# Altium schematic symbol library firmware_tutorial_board.SchLib: 8 symbols
Pins are listed as number, name and electrical type; pins without a type are passive.

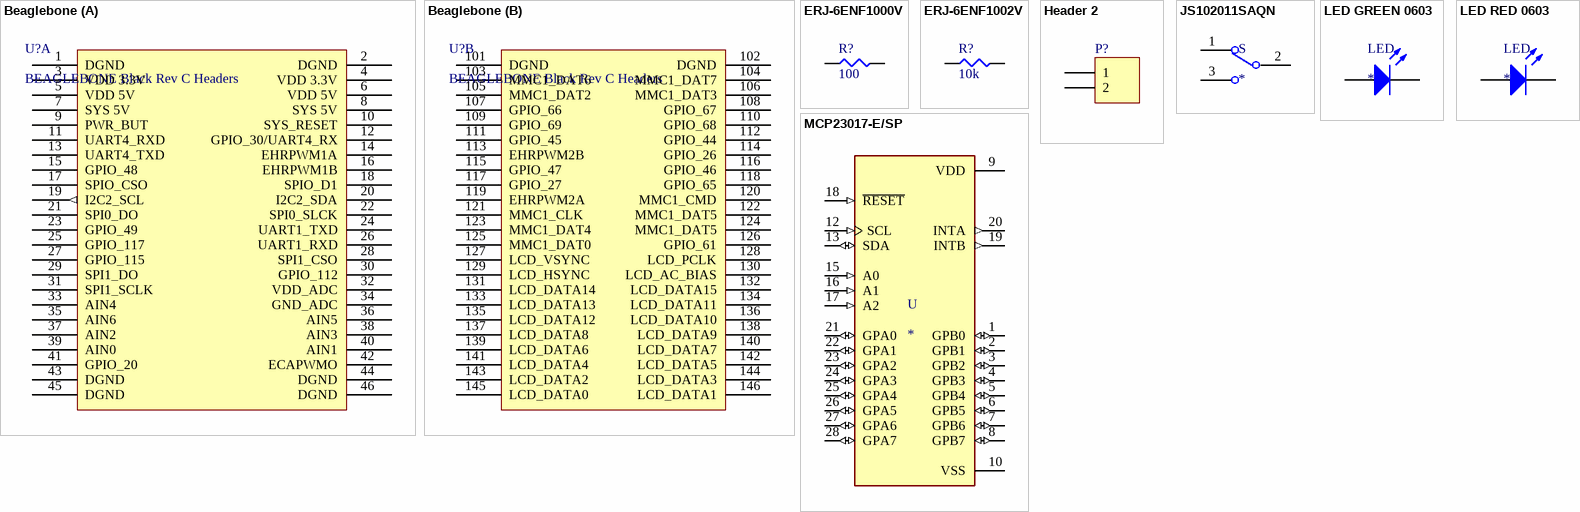
[diagram p0: symbols Beaglebone to MCP23017-E/SP]

## Beaglebone
designator U?, comment BEAGLEBONE Black Rev C Headers
KIT DEV BEAGLEBONE BLACK REV C. Header Breakout; Manufactuer: Beaglebone; Manufacturer P/N: Beaglebone Black REV C; Digikey P/N: BBB01-SC-505-ND; Digikey Link: https://www.digikey.com/product-detail/en/ghi-electronics-llc/BBB01-SC-505/BBB01-SC-505-ND/6210999; Datasheet: https://media.digikey.com/pdf/Data%20Sheets/Circuitco%20Elect/BB-BBLK-000%20Manual.pdf; ComponentLink1Description: Digikey; ComponentLink1URL: https://www.digikey.com/product-detail/en/ghi-electronics-llc/BBB01-SC-505/BBB01-SC-505-ND/6210999
footprint Beaglebone_Topside (Connector; Header; 24x2 Position)
part A pins: 1 DGND, 2 DGND, 3 VDD 3.3V, 4 VDD 3.3V, 5 VDD 5V, 6 VDD 5V, 7 SYS 5V, 8 SYS 5V, 9 PWR_BUT, 10 SYS_RESET, 11 UART4_RXD, 12 GPIO_30/UART4_RX, 13 UART4_TXD, 14 EHRPWM1A, 15 GPIO_48, 16 EHRPWM1B, 17 SPIO_CSO, 18 SPIO_D1, 19 I2C2_SCL (out), 20 I2C2_SDA, 21 SPI0_DO, 22 SPI0_SLCK, 23 GPIO_49, 24 UART1_TXD, 25 GPIO_117, 26 UART1_RXD, 27 GPIO_115, 28 SPI1_CSO, 29 SPI1_DO, 30 GPIO_112, 31 SPI1_SCLK, 32 VDD_ADC, 33 AIN4, 34 GND_ADC, 35 AIN6, 36 AIN5, 37 AIN2, 38 AIN3, 39 AIN0, 40 AIN1, 41 GPIO_20, 42 ECAPWMO, 43 DGND, 44 DGND, 45 DGND, 46 DGND
part B pins: 101 DGND, 102 DGND, 103 MMC1_DAT6, 104 MMC1_DAT7, 105 MMC1_DAT2, 106 MMC1_DAT3, 107 GPIO_66, 108 GPIO_67, 109 GPIO_69, 110 GPIO_68, 111 GPIO_45, 112 GPIO_44, 113 EHRPWM2B, 114 GPIO_26, 115 GPIO_47, 116 GPIO_46, 117 GPIO_27, 118 GPIO_65, 119 EHRPWM2A, 120 MMC1_CMD, 121 MMC1_CLK, 122 MMC1_DAT5, 123 MMC1_DAT4, 124 MMC1_DAT5, 125 MMC1_DAT0, 126 GPIO_61, 127 LCD_VSYNC, 128 LCD_PCLK, 129 LCD_HSYNC, 130 LCD_AC_BIAS, 131 LCD_DATA14, 132 LCD_DATA15, 133 LCD_DATA13, 134 LCD_DATA11, 135 LCD_DATA12, 136 LCD_DATA10, 137 LCD_DATA8, 138 LCD_DATA9, 139 LCD_DATA6, 140 LCD_DATA7, 141 LCD_DATA4, 142 LCD_DATA5, 143 LCD_DATA2, 144 LCD_DATA3, 145 LCD_DATA0, 146 LCD_DATA1

## ERJ-6ENF1000V
designator R?, comment 100
RES SMD 100 OHM 1% 1/8W 0805; Part Number: ERJ-6ENF1000V; Manufacturer: Panasonic Electronic Components; Factory Stock: 0; Unit Price (USD): 0.00729; @ qty: 1500; Minimum Quantity: 1; Power (Watts): 0.125W, 1/8W; Temperature Coefficient: ±100ppm/°C; Datasheets: http://industrial.panasonic.com/www-cgi/jvcr13pz.cgi?E+PZ+3+AOA0002+ERJ6ENF1000V+7+WW; Image: //media.digikey.com/Renders/Panasonic%20Renders/ERJ-0805%20Pkg.jpg; Digi-Key Part Number: P100CCT-ND; Quantity Available: 288663; Packaging: Cut Tape (CT); Series: ERJ; Part Status: Active; Value: 100; Tolerance: ±1%; Composition: Thick Film; Features: Automotive AEC-Q200; Operating Temperature: -55°C ~ 155°C; Package / Case: 0805 (2012 Metric); Supplier Device Package: 0805; Size / Dimension: 0.079" L x 0.049" W (2.00mm x 1.25mm); Height - Seated (Max): 0.028" (0.70mm); Number of Terminations: 2; Failure Rate: -
footprint SMD-0805-RES
pins: 1, 2

## ERJ-6ENF1002V
designator R?, comment 10k
RES SMD 10K OHM 1% 1/8W 0805; Part Number: ERJ-6ENF1002V; Manufacturer: Panasonic Electronic Components; Factory Stock: 0; Unit Price (USD): 0.00729; @ qty: 1500; Minimum Quantity: 1; Power (Watts): 0.125W, 1/8W; Temperature Coefficient: ±100ppm/°C; Datasheets: http://industrial.panasonic.com/www-cgi/jvcr13pz.cgi?E+PZ+3+AOA0002+ERJ6ENF1002V+7+WW; Image: //media.digikey.com/Renders/Panasonic%20Renders/ERJ-0805%20Pkg.jpg; Digi-Key Part Number: P10.0KCCT-ND; Quantity Available: 3985614; Packaging: Cut Tape (CT); Series: ERJ; Part Status: Active; Value: 10k; Tolerance: ±1%; Composition: Thick Film; Features: Automotive AEC-Q200; Operating Temperature: -55°C ~ 155°C; Package / Case: 0805 (2012 Metric); Supplier Device Package: 0805; Size / Dimension: 0.079" L x 0.049" W (2.00mm x 1.25mm); Height - Seated (Max): 0.028" (0.70mm); Number of Terminations: 2; Failure Rate: -
footprint SMD-0805-RES
pins: 1, 2

## Header 2
designator P?
Header, 2-Pin; LatestRevisionDate: 17-Jul-2002; LatestRevisionNote: Re-released for DXP Platform.; Publisher: Altium Limited
signal-integrity model Connector
footprint Pin Header 1x2 TH Pitch 2.54mm (PinHeader 1x2 TH Pitch 2.54mm)
pins: 1, 2

## JS102011SAQN
designator S
Slide Switch SPDT Surface Mount, Right Angle; MF: C&K; MP: JS102011SAQN; Availability: Unavailable; Price: None; SnapEDA_Link: https://www.snapeda.com/parts/JS102011SAQN/C%26K/view-part/214325/?ref=snap; Value: *; Package: None
footprint SW_JS102011SAQN
pins: 1, 2, 3

## LED GREEN 0603
designator LED
Manufacturer: Lite-On Inc.; Manufacturer P/N: LTST-C190KGKT; Digikey P/N: 160-1435-1-ND; Package / Case: 0603; Color: GREEN
footprint LED 0603 GREEN (Chip Diode, 2-Leads, Body 1.60x0.80mm, IPC Medium Density)
pins: 1 A, 2 K

## LED RED 0603
designator LED
Red 631nm LED Indication - Discrete 2V 0603 (1608 Metric); Manufacturer: Lite-On Inc.; Manufacturer P/N: LTST-C190KRKT; Digikey P/N: 160-1436-1-ND; Package / Case: 0603; Color: RED
footprint LED 0603 RED (Chip Diode, 2-Leads, Body 1.60x0.80mm, IPC Medium Density)
pins: 1 A, 2 K

## MCP23017-E/SP
designator U
I/O Expander 16 IÂ²C 1.7MHz 28-SPDIP; MP: MCP23017-E/SP; MF: Microchip; Availability: Unavailable; Price: None; Value: *; SnapEDA_Link: https://www.snapeda.com/parts/MCP23017-E/SP/Microchip/view-part/48605/?ref=snap; Package: DIP-28 Microchip
footprint DIP787W45P254L3556H508Q28
pins: 1 GPB0 (io), 2 GPB1 (io), 3 GPB2 (io), 4 GPB3 (io), 5 GPB4 (io), 6 GPB5 (io), 7 GPB6 (io), 8 GPB7 (io), 9 VDD (power), 10 VSS (power), 12 SCL (in), 13 SDA (io), 15 A0 (in), 16 A1 (in), 17 A2 (in), 18 ~{RESET} (in), 19 INTB (out), 20 INTA (out), 21 GPA0 (io), 22 GPA1 (io), 23 GPA2 (io), 24 GPA3 (io), 25 GPA4 (io), 26 GPA5 (io), 27 GPA6 (io), 28 GPA7 (io)